# EAGLE library part ZX62-B-5PA(11) (library launchpad_bp)
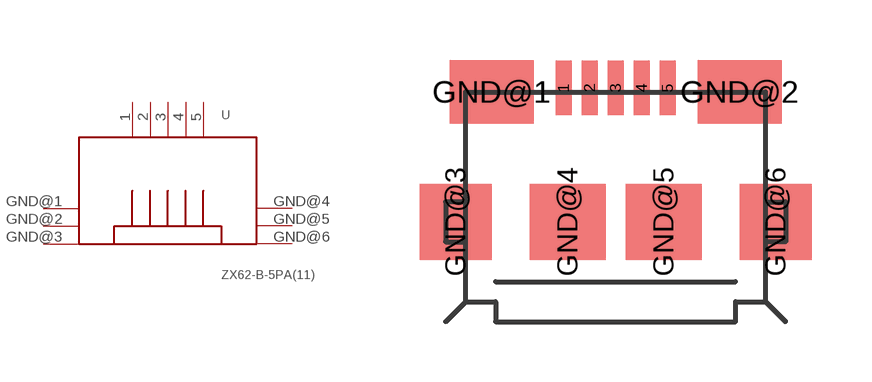
[diagram p14: symbol with the pads of ZX62-B-5PA(11); footprint ZX62-B-5PA(11)]

Designator prefix -

## ZX62-B-5PA(11)  [ZX62-B-5PA(11)]
1  1
2  2
3  3
4  4
5  5
GND@1  GND  pas
GND@2  GND  pas
GND@3  GND  pas
GND@4  GND  pas
GND@5  GND  pas
GND@6  GND  pas

## Footprint ZX62-B-5PA(11) (pad centres in mm)
smd 0.4 x 1.35: 1 -1.3,3.35; 2 -0.65,3.35; 3 0,3.35; 4 0.65,3.35; 5 1.3,3.35
smd 2.1 x 1.6: GND@1 -3.1,3.25; GND@2 3.1,3.25
smd 1.8 x 1.9: GND@3 -4,0; GND@6 4,0
smd 1.9 x 1.9: GND@4 -1.2,0; GND@5 1.2,0